# EAGLE library part DEV14809 (library lightsaber)
Check availability <https://pricing.snapeda.com/parts/DEV14809/Sparkfun%20Electronics/view-part?ref=eda>
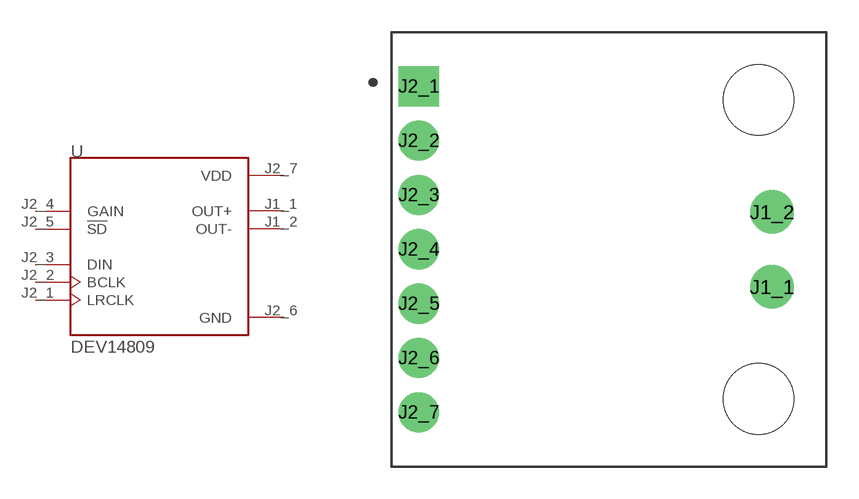
[diagram p0: symbol with the pads of MODULE_DEV14809; footprint MODULE_DEV14809]

Designator prefix U

## DEV14809 (AVAILABILITY: In Stock; CHECK_PRICES: https://www.snapeda.com/parts/DEV14809/SparkFun/view-part/?ref=eda; DESCRIPTION: MAX98357A Audio Interface Audio - Platform Evaluation Expansion Board; MF: Sparkfun Electronics; MP: DEV14809; PACKAGE: None; PRICE: None; SNAPEDA_LINK: https://www.snapeda.com/parts/DEV14809/SparkFun/view-part/?ref=snap)  [MODULE_DEV14809]
J1_1  OUT+  out
J1_2  OUT-  out
J2_1  LRCLK  in
J2_2  BCLK  in
J2_3  DIN  in
J2_4  GAIN  in
J2_5  !SD  in
J2_6  GND  pwr
J2_7  VDD  pwr

## Footprint MODULE_DEV14809 (pad centres in mm)
drill 1.2 pad 2.032: J1_1 7.62,-1.75; J1_2 7.62,1.75
drill 1.016 pad 1.88 square: J2_1 -8.89,7.62
drill 1.016 pad 1.88: J2_2 -8.89,5.08; J2_3 -8.89,2.54; J2_4 -8.89,0; J2_5 -8.89,-2.54; J2_6 -8.89,-5.08; J2_7 -8.89,-7.62
hole 3.302 at 6.985,6.985
hole 3.302 at 6.985,-6.985